# EAGLE library part SMDPINH2X5_S (library SquantorConnectors)
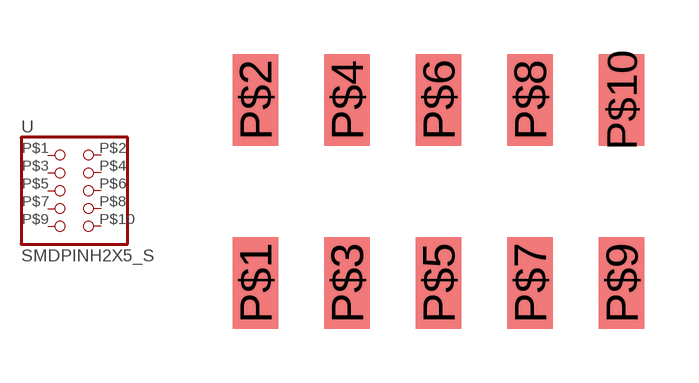
[diagram p1: symbol with the pads of SMDPINH2X5_S; footprint SMDPINH2X5_S]

Designator prefix -

## SMDPINH2X5_S  [SMDPINH2X5_S]
P$1  1  pas
P$2  2  pas
P$3  3  pas
P$4  4  pas
P$5  5  pas
P$6  6  pas
P$7  7  pas
P$8  8  pas
P$9  9  pas
P$10  10  pas

## Footprint SMDPINH2X5_S (pad centres in mm)
smd 1.27 x 2.54: P$1 -5.08,-2.54; P$2 -5.08,2.54; P$3 -2.54,-2.54; P$4 -2.54,2.54; P$5 0,-2.54; P$6 0,2.54; P$7 2.54,-2.54; P$8 2.54,2.54; P$9 5.08,-2.54; P$10 5.08,2.54